# Altium schematic symbol library ModularJack.SchLib: 5 symbols
Pins are listed as number, name and electrical type; pins without a type are passive.

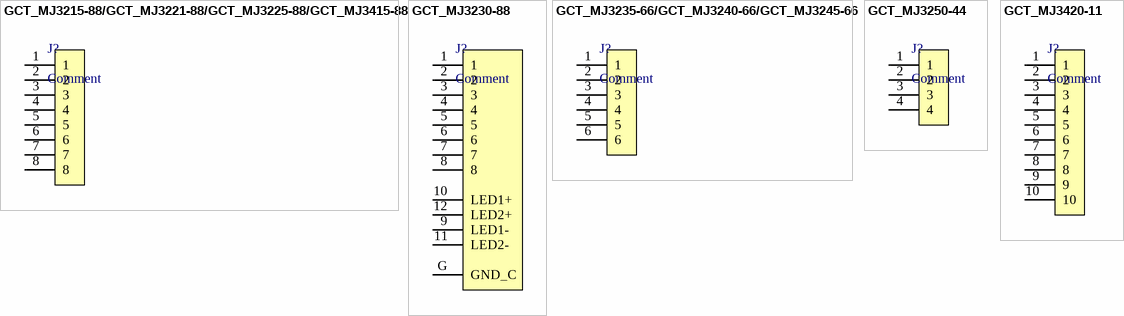
[diagram p0: symbols GCT_MJ3215-88/GCT_MJ3221-88/GCT_MJ3225-88/GCT_MJ3415-88 to GCT_MJ3420-11]

## GCT_MJ3215-88/GCT_MJ3221-88/GCT_MJ3225-88/GCT_MJ3415-88
designator J?, comment Comment
pins: 1 "Pin_01", 2 "Pin_02", 3 "Pin_03", 4 "Pin_04", 5 "Pin_05", 6 "Pin_06", 7 "Pin_07", 8 "Pin_08"

## GCT_MJ3230-88
designator J?, comment Comment
pins: 1 "Pin_01", 2 "Pin_02", 3 "Pin_03", 4 "Pin_04", 5 "Pin_05", 6 "Pin_06", 7 "Pin_07", 8 "Pin_08", 9 LED1- "LED 1 cathode pin", 10 LED1+ "LED 1 anode pin", 11 LED2- "LED 2 cathode pin", 12 LED2+ "LED 2 anode pin", G GND_C (power) "Chassis ground"

## GCT_MJ3235-66/GCT_MJ3240-66/GCT_MJ3245-66
designator J?, comment Comment
pins: 1 "Pin_01", 2 "Pin_02", 3 "Pin_03", 4 "Pin_04", 5 "Pin_05", 6 "Pin_06"

## GCT_MJ3250-44
designator J?, comment Comment
pins: 1 "Pin_01", 2 "Pin_02", 3 "Pin_03", 4 "Pin_04"

## GCT_MJ3420-11
designator J?, comment Comment
pins: 1 "Pin_01", 2 "Pin_02", 3 "Pin_03", 4 "Pin_04", 5 "Pin_05", 6 "Pin_06", 7 "Pin_07", 8 "Pin_08", 9 "Pin_09", 10 "Pin_10"